# EAGLE library part 74*285 (library U-7400)
4 by 4 parallel BINARY MULTIPLIER
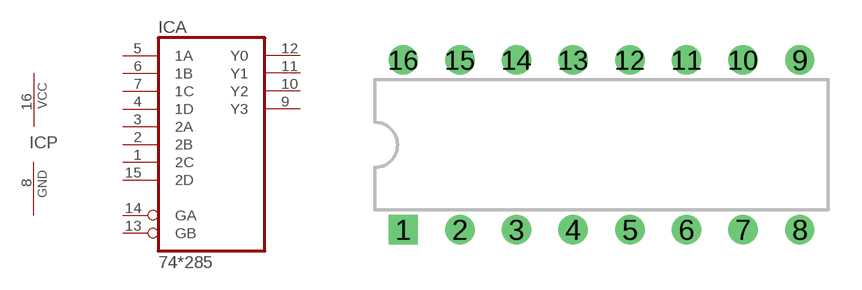
[diagram p109: symbol with the pads of 16DIP; footprint 16DIP]

Designator prefix IC; gates A=74285 P=PWRN

## 74285N  [16DIP]
1  A:2C  in
2  A:2B  in
3  A:2A  in
4  A:1D  in
5  A:1A  in
6  A:1B  in
7  A:1C  in
8  P:GND  pwr
9  A:Y3  oc
10  A:Y2  oc
11  A:Y1  oc
12  A:Y0  oc
13  A:GB  in
14  A:GA  in
15  A:2D  in
16  P:VCC  sup

## Footprint 16DIP (pad centres in mm)
16 position Dual In-line Package
drill 0.813 square: 1 -8.89,-3.81
drill 0.813: 2 -6.35,-3.81; 3 -3.81,-3.81; 4 -1.27,-3.81; 5 1.27,-3.81; 6 3.81,-3.81; 7 6.35,-3.81; 8 8.89,-3.81; 9 8.89,3.81; 10 6.35,3.81; 11 3.81,3.81; 12 1.27,3.81; 13 -1.27,3.81; 14 -3.81,3.81; 15 -6.35,3.81; 16 -8.89,3.81